# Altium footprint library Boost_PCB_Lib.PcbLib: 4 footprints
Each footprint in its own frame and in the unit in brackets; x right, y up, seen from the top. Pads: shape width x height; smd on the part's side, far side on the other; paste and mask are expansions set on the pad; w line width, h text height; cw(c..) or ccw(c..) is an arc to the next point about the centre after c.
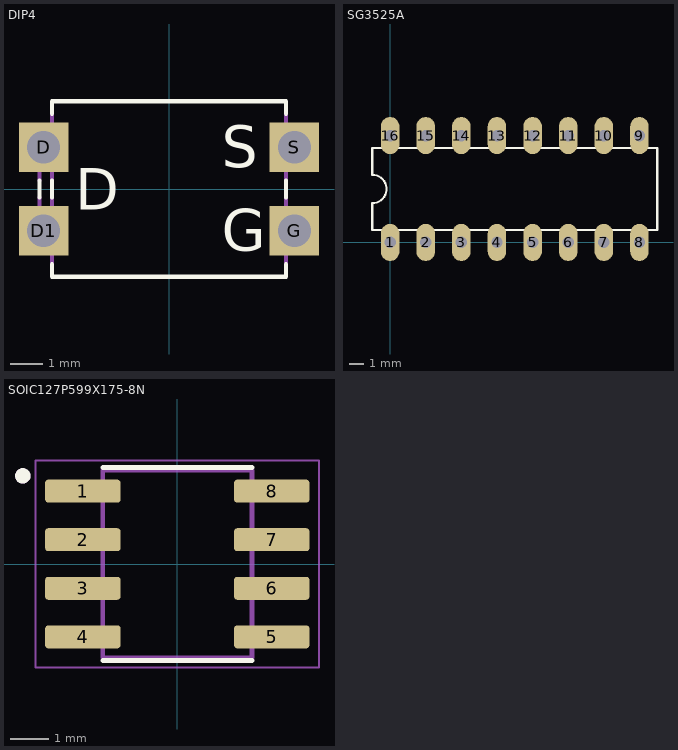
[diagram p0: the footprints below, top view; thin cyan lines are the x and y axes]

## DIP4 [mm]
pads (4):
  rect 1.5x1.5 hole 1: D(-3.81,1.27) D1(-3.81,-1.27) G(3.81,-1.27) S(3.81,1.27)
Top Overlay:
  lines w0.127: -3.937,-0.254 -3.937,0.254 ; -3.556,-2.286 -3.556,-2.667 3.556,-2.667 3.556,-2.286 ; -3.556,-0.254 -3.556,0.254 ; -3.556,2.286 -3.556,2.667 3.556,2.667 3.556,2.286 ; 3.556,-0.254 3.556,0.254
  text "D" at -2.845,-0.635 h1.27
  text "S" at 1.6,0.66 h1.27
  text "G" at 1.6,-1.88 h1.27
Mechanical 13:
  lines w0.127: -3.937,-0.254 -3.937,-1.651 -3.556,-1.651 ; -3.937,0.254 -3.937,1.651 -3.556,1.651 ; -3.556,-2.286 -3.556,-1.651 ; -3.556,-0.254 -3.556,-1.651 ; -3.556,0.254 -3.556,1.651 ; -3.556,2.286 -3.556,1.651 ; 3.556,-2.286 3.556,-1.651 ; 3.556,-0.254 3.556,-0.889 ; 3.556,0.254 3.556,0.889 ; 3.556,2.286 3.556,1.651 ; 3.556,-1.651 3.556,-0.889 ; 3.556,-1.651 3.937,-1.651 3.937,-0.889 3.556,-0.889 ; 3.556,0.889 3.556,1.651 ; 3.556,0.889 3.937,0.889 3.937,1.651 3.556,1.651

## PCBComponent_1 [mil]

## SG3525A [mil] "IC"
pads (16):
  oval 52x104 hole 32: 1(0,0) 2(100,0) 3(200,0) 4(300,0) 5(400,0) 6(500,0) 7(600,0) 8(700,0) 9(700,300) 10(600,300) 11(500,300) 12(400,300) 13(300,300) 14(200,300) 15(100,300) 16(0,300)
Top Overlay:
  lines w6: -50,35 750,35 750,265 -50,265 -50,190 cw(c-50,150) -50,110 -50,35
3D body "SG3525A.STEP": height 174.41, standoff -185.43, extent -25.12,-14.92 730,294.92

## SOIC127P599X175-8N [mm]
pads (8):
  rrect25% 1.97x0.6 smd: 1(-2.47,1.905) 2(-2.47,0.635) 3(-2.47,-0.635) 4(-2.47,-1.905) 5(2.47,-1.905) 6(2.47,-0.635) 7(2.47,0.635) 8(2.47,1.905)
Top Overlay:
  circle w0.2: c-4.04,2.305 r0.1
  lines w0.127: -1.95,-2.525 1.95,-2.525 ; -1.95,2.525 1.95,2.525
Mechanical 13:
  circle w0.2: c-4.04,2.305 r0.1
  lines w0.127: -1.95,-2.452 -1.95,2.452 1.95,2.452 1.95,-2.452 -1.95,-2.452
Mechanical 15:
  lines w0.05: -3.705,-2.702 -3.705,2.702 3.705,2.702 3.705,-2.702 -3.705,-2.702